# Altium schematic symbol library HDR_1X4_BB_5.SchLib: 1 symbol
Pins are listed as number, name and electrical type; pins without a type are passive.

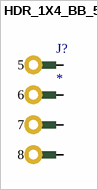
[diagram p0: symbol HDR_1X4_BB_5]

## HDR_1X4_BB_5
designator J?
pins: 5, 6, 7, 8